# EAGLE library part CON-HARTING-ML_ML16-2 (library PushButtonAction_4017_2)
HARTING
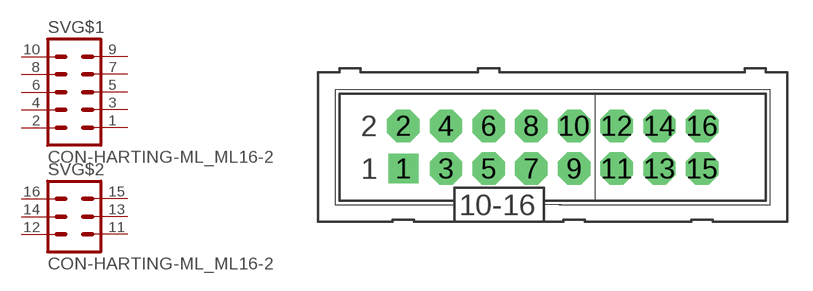
[diagram p2: symbol with the pads of CON-HARTING-ML_ML16; footprint CON-HARTING-ML_ML16]

Designator prefix SV; gates G$1=CON-HARTING-ML_10P G$2=CON-HARTING-ML_6P

## CON-HARTING-ML_ML16-2  [CON-HARTING-ML_ML16]
1  G$1:1  pas
2  G$1:2  pas
3  G$1:3  pas
4  G$1:4  pas
5  G$1:5  pas
6  G$1:6  pas
7  G$1:7  pas
8  G$1:8  pas
9  G$1:9  pas
10  G$1:10  pas
11  G$2:1  pas
12  G$2:2  pas
13  G$2:3  pas
14  G$2:4  pas
15  G$2:5  pas
16  G$2:6  pas

## Footprint CON-HARTING-ML_ML16 (pad centres in mm)
HARTING
drill 0.914 pad 1.778 square: 1 -8.89,-1.27
drill 0.914 pad 1.93 octagon: 2 -8.89,1.27; 3 -6.35,-1.27; 4 -6.35,1.27; 5 -3.81,-1.27; 6 -3.81,1.27; 7 -1.27,-1.27; 8 -1.27,1.27; 9 1.27,-1.27; 10 1.27,1.27; 11 3.81,-1.27; 12 3.81,1.27; 13 6.35,-1.27; 14 6.35,1.27; 15 8.89,-1.27; 16 8.89,1.27